# Altium footprint library CUI_TB006-508-02BE.PcbLib: 1 footprints
Each footprint in its own frame and in the unit in brackets; x right, y up, seen from the top. Pads: shape width x height; smd on the part's side, far side on the other; paste and mask are expansions set on the pad; w line width, h text height; cw(c..) or ccw(c..) is an arc to the next point about the centre after c.
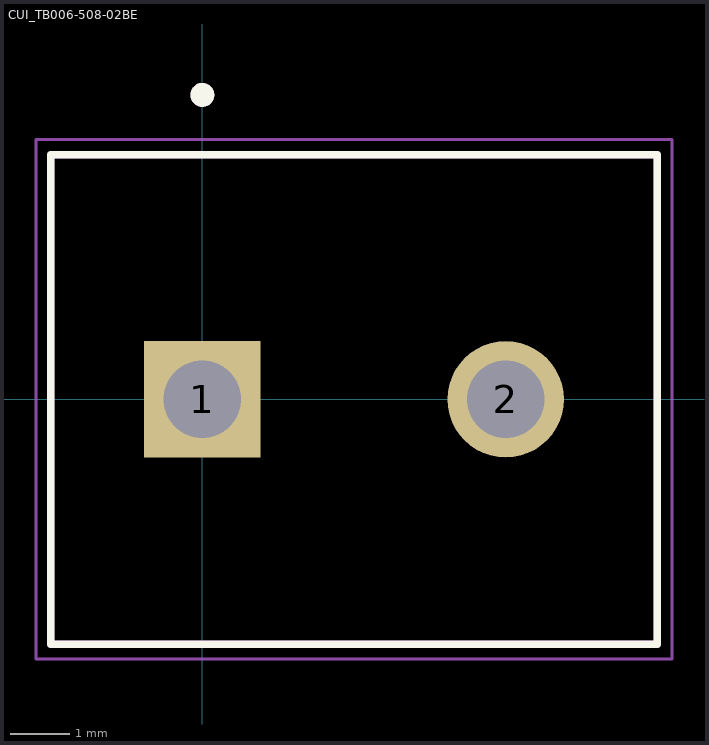
[diagram p0: the footprint, top view; thin cyan lines are the x and y axes]

## CUI_TB006-508-02BE [mm]
pads (2):
  rect 1.95x1.95 / inner round 1.95 / far side rect 1.95x1.95 hole 1.3: 1(0,0)
  round 1.95 hole 1.3: 2(5.08,0)
Top Overlay:
  circle w0.2: c0,5.1 r0.1
  lines w0.127: -2.54,-4.1 7.62,-4.1 7.62,4.1 -2.54,4.1 -2.54,-4.1
Assembly Top:
  circle w0.2: c0,5.1 r0.1
  lines w0.127: -2.54,-4.1 7.62,-4.1 7.62,4.1 -2.54,4.1 -2.54,-4.1
Courtyard Top:
  lines w0.05: -2.79,-4.35 -2.79,4.35 7.87,4.35 7.87,-4.35 -2.79,-4.35
3D body "step_temp.STEP": height 10, standoff -3.8, extent -3.044,-4.136 7.616,4.064